# Altium schematic symbol library SnapEDAsch.SchLib: 1 symbol
Pins are listed as number, name and electrical type; pins without a type are passive.

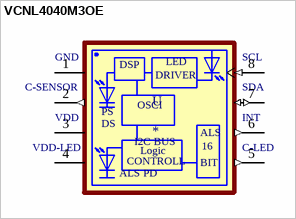
[diagram p0: symbol VCNL4040M3OE]

## VCNL4040M3OE
designator U
Optical Sensor Ambient 550nm IÂ²C 8-SMD Module; MF: Vishay; MP: VCNL4040M3OE; Package: SMD-8 Vishay; Value: *; Price: None; SnapEDA_Link: https://www.snapeda.com/parts/VCNL4040M3OE/Vishay%20Semiconductor%20Opto%20Division/view-part/434280/?ref=snap; Availability: Unavailable
footprint VISHAY_VCNL4040_4X2X1.1
pins: 1 GND (power), 2 C-SENSOR (out), 3 VDD (power), 4 VDD-LED (power), 5 C-LED (out), 6 INT (out), 7 SDA (io), 8 SCL (in)
text: DSP; LED; DRIVER; OSCI; PS; DS; ALS; I2C BUS; Logic; 16; CONTROLL; BIT; PD